# Altium schematic symbol library 1206ZC106KAT2A.SchLib: 1 symbol
Pins are listed as number, name and electrical type; pins without a type are passive.

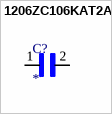
[diagram p0: symbol 1206ZC106KAT2A]

## 1206ZC106KAT2A
designator C?
CAPACITOR, MLCC, X7R, 10UF, 10V, 1206; MF: {'manufacturer': u'AVX'}; MP: 1206ZC106KAT2A; Value: *; Price: None; Availability: Unavailable; Package: None
footprint CAPC3216X178N
pins: 1, 2